# Altium schematic symbol library Fairchild.SchLib: 6 symbols
Pins are listed as number, name and electrical type; pins without a type are passive.

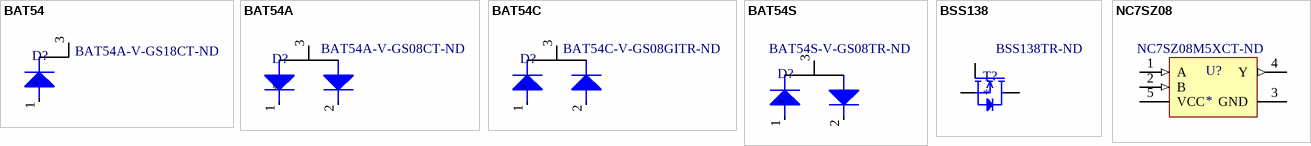
[diagram p0: symbols BAT54 to NC7SZ08]

## BAT54
designator D?  Supplier Part Number 1: BAT54A-V-GS18CT-ND
Supplier 1: Digi-Key
footprint SOT95P245X110-3L (SOT23, 3-Leads, Body 2,90x2,45mm, Pitch 0,95mm, IPC High Density)
pins: 1, 3

## BAT54A
designator D?  Supplier Part Number 1: BAT54A-V-GS08CT-ND
Supplier 1: Digi-Key
footprint SOT95P245X110-3L (SOT23, 3-Leads, Body 2,90x2,45mm, Pitch 0,95mm, IPC High Density)
pins: 1, 2, 3

## BAT54C
designator D?  Supplier Part Number 1: BAT54C-V-GS08GITR-ND
Supplier 1: Digi-Key
footprint SOT95P245X110-3L (SOT23, 3-Leads, Body 2,90x2,45mm, Pitch 0,95mm, IPC High Density)
pins: 1, 2, 3

## BAT54S
designator D?  Supplier Part Number 1: BAT54S-V-GS08TR-ND
Supplier 1: Digi-Key
footprint SOT95P245X110-3L (SOT23, 3-Leads, Body 2,90x2,45mm, Pitch 0,95mm, IPC High Density)
pins: 1, 2, 3

## BSS138
designator T?  Supplier Part Number 1: BSS138TR-ND
Supplier 1: Digi-Key
footprint SOT95P245X110-3L (SOT23, 3-Leads, Body 2,90x2,45mm, Pitch 0,95mm, IPC High Density)
pins: 1, 2, 3

## NC7SZ08
designator U?  Supplier Part Number 1: NC7SZ08M5XCT-ND
TinyLogic UHS Two-Input AND Gate; Supplier 1: Digi-Key
footprint SOT65P215X100-5L (SOT23, 5-Leads, Body 2.00x2.15mm, Pitch 0.65mm, IPC High Density)
pins: 1 A (in), 2 B (in), 3 GND (power), 4 Y (out), 5 VCC (power)